# EAGLE library part JACK-6_35MM-STEREO-SW (library halcyonmod_Connectors)
Tip-Ring-Sleeve Jack, 1/4" , Right Angle, with switches
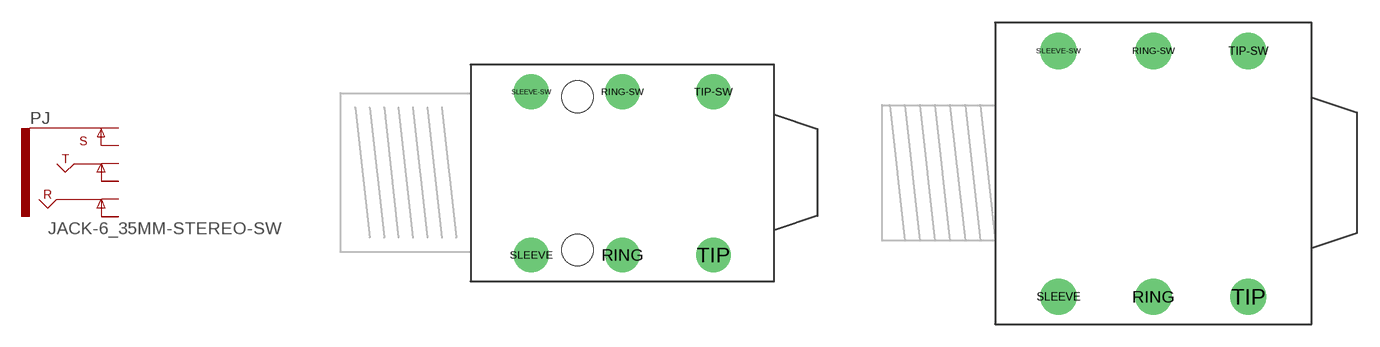
[diagram p3: symbol with the pads of PJ-611; footprints PJ-611, PJ-6_35MM-PTH-STEREO-SW]

Designator prefix PJ

## JACK-6_35MM-STEREO-SW-PJ_611  [PJ-611]
RING  RING
RING-SW  RING-SW
SLEEVE  SLEEVE
SLEEVE-SW  SLEEVE-SW
TIP  TIP
TIP-SW  TIP-SW

## JACK-6_35MM-STEREO-SW-SYNTH  [PJ-6_35MM-PTH-STEREO-SW]
Pads as for PJ-611

## Footprint PJ-611 (pad centres in mm)
Source: Source: http://cdn.sparkfun.com/datasheets/Components/General/JP-611%20DD.jpg Sparkfun SKU: COM-11144 CEC Ltd, PJ-644D ?
drill 1.6: RING 0,-5.75; RING-SW 0,5.55; SLEEVE -6.3,-5.75; SLEEVE-SW -6.3,5.55; TIP 6.3,-5.75; TIP-SW 6.3,5.55
hole 2.2 at -3.1,5.2
hole 2.2 at -3.1,-5.4

## Footprint PJ-6_35MM-PTH-STEREO-SW (pad centres in mm)
Jack 1/4" Stereo, with switches Source: (unknown) Supplier: Synthrotek
drill 1.6: RING 0,-8.25; RING-SW 0,8.05; SLEEVE -6.3,-8.25; SLEEVE-SW -6.3,8.05; TIP 6.3,-8.25; TIP-SW 6.3,8.05